# EAGLE library part DISP_OLED_UG-2832HSWEG04 (library OLED-UG-2832HSWEG04)
128x32 SPI 0.91" Monochrome OLED Display
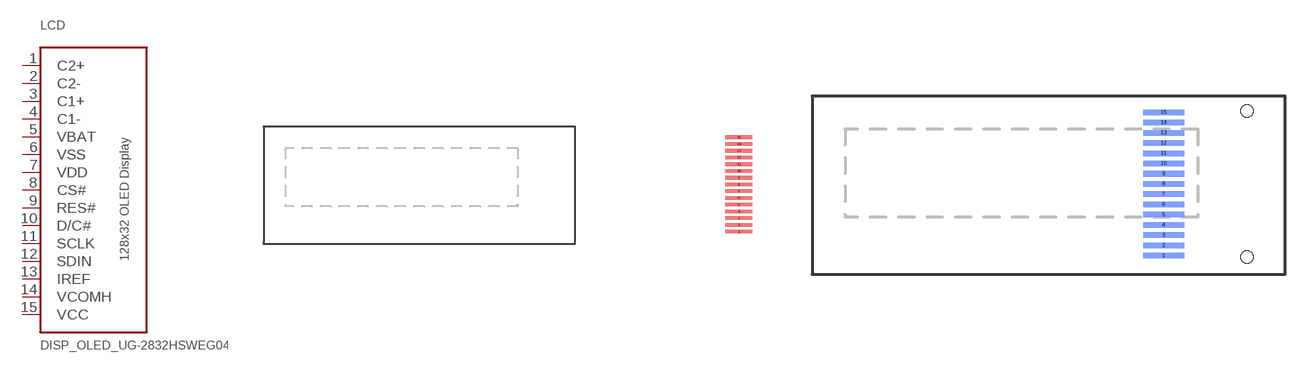
[diagram p0: symbol with the pads of UG-2832HSWEG04; footprints UG-2832HSWEG04, UG-2832HSWEG04_WRAPAROUND]

Designator prefix LCD

## DISP_OLED_UG-2832HSWEG04  [UG-2832HSWEG04]
1  C2+
2  C2-
3  C1+
4  C1-
5  VBAT
6  VSS
7  VDD
8  CS#
9  RES#
10  D/C#
11  SCLK
12  SDIN
13  IREF
14  VCOMH
15  VCC

## DISP_OLED_UG-2832HSWEG04WRAPAROUND  [UG-2832HSWEG04_WRAPAROUND]
Pads as for UG-2832HSWEG04

## DISP_OLED_UG-2832HSWEG04UG-2832HSWEG04_REVERSEMOUNT  [UG-2832HSWEG04_REVERSEMOUNT]
Pads as for UG-2832HSWEG04

## Footprint UG-2832HSWEG04 (pad centres in mm)
128x32 OLED Display - 0.91" (30x11.5mm)
smd 2.6 x 0.35: 1 15.8,-4.55; 2 15.8,-3.9; 3 15.8,-3.25; 4 15.8,-2.6; 5 15.8,-1.95; 6 15.8,-1.3; 7 15.8,-0.65; 8 15.8,0; 9 15.8,0.65; 10 15.8,1.3; 11 15.8,1.95; 12 15.8,2.6; 13 15.8,3.25; 14 15.8,3.9; 15 15.8,4.55

## Footprint UG-2832HSWEG04_WRAPAROUND (pad centres in mm)
smd 2.6 x 0.35 bottom: 1 -7.7,-4.55; 2 -7.7,-3.9; 3 -7.7,-3.25; 4 -7.7,-2.6; 5 -7.7,-1.95; 6 -7.7,-1.3; 7 -7.7,-0.65; 8 -7.7,0; 9 -7.7,0.65; 10 -7.7,1.3; 11 -7.7,1.95; 12 -7.7,2.6; 13 -7.7,3.25; 14 -7.7,3.9; 15 -7.7,4.55
hole 0.8 at -2.4,4.625
hole 0.8 at -2.4,-4.625

## Footprint UG-2832HSWEG04_REVERSEMOUNT (pad centres in mm)
128x32 OLED Display - 0.91" (30x11.5mm)
smd 2.6 x 0.35 bottom: 1 15.81,-4.57; 2 15.81,-3.92; 3 15.81,-3.27; 4 15.81,-2.62; 5 15.81,-1.97; 6 15.81,-1.32; 7 15.81,-0.67; 8 15.81,-0.02; 9 15.81,0.63; 10 15.81,1.28; 11 15.81,1.93; 12 15.81,2.58; 13 15.81,3.23; 14 15.81,3.88; 15 15.81,4.53